# EAGLE library part 74HCT238D (library JMT)
74HCT238D, Decoder, Demultiplexer HCT, 1-of-8 Non-Inverting 5V 16-Pin SOIC Source: Datasheet <http://www.nxp.com/documents/data_sheet/74HC_HCT238.pdf>
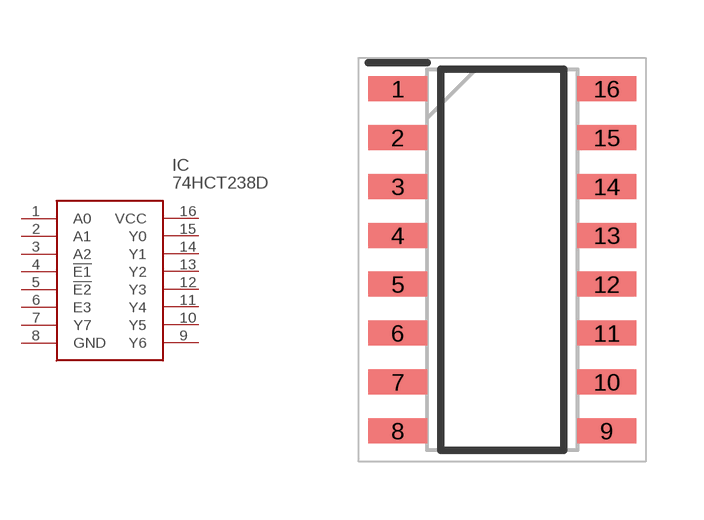
[diagram p0: symbol with the pads of SOIC127P600X175-16N; footprint SOIC127P600X175-16N]

Designator prefix IC

## 74HCT238D (ARROW_PART_NUMBER: 74HCT238D; ARROW_PRICE-STOCK: http://uk.rs-online.com/web/p/products/4836718P; DESCRIPTION: 74HCT238D, Decoder, Demultiplexer HCT, 1-of-8 Non-Inverting 5V 16-Pin SOIC; HEIGHT: 1.75mm; MANUFACTURER_NAME: Nexperia; MANUFACTURER_PART_NUMBER: 74HCT238D; RS_PART_NUMBER: 4836718P; RS_PRICE-STOCK: http://uk.rs-online.com/web/p/products/4836718P)  [SOIC127P600X175-16N]
1  A0
2  A1
3  A2
4  !E1
5  !E2
6  E3
7  Y7
8  GND  pwr
9  Y6
10  Y5
11  Y4
12  Y3
13  Y2
14  Y1
15  Y0
16  VCC  pwr

## Footprint SOIC127P600X175-16N (pad centres in mm)
D(R-PDSO-G16)
smd 1.525 x 0.65: 1 -2.712,4.445; 2 -2.712,3.175; 3 -2.712,1.905; 4 -2.712,0.635; 5 -2.712,-0.635; 6 -2.712,-1.905; 7 -2.712,-3.175; 8 -2.712,-4.445; 9 2.712,-4.445; 10 2.712,-3.175; 11 2.712,-1.905; 12 2.712,-0.635; 13 2.712,0.635; 14 2.712,1.905; 15 2.712,3.175; 16 2.712,4.445